# Altium schematic symbol library DIP.SchLib: 29 symbols
Pins are listed as number, name and electrical type; pins without a type are passive.

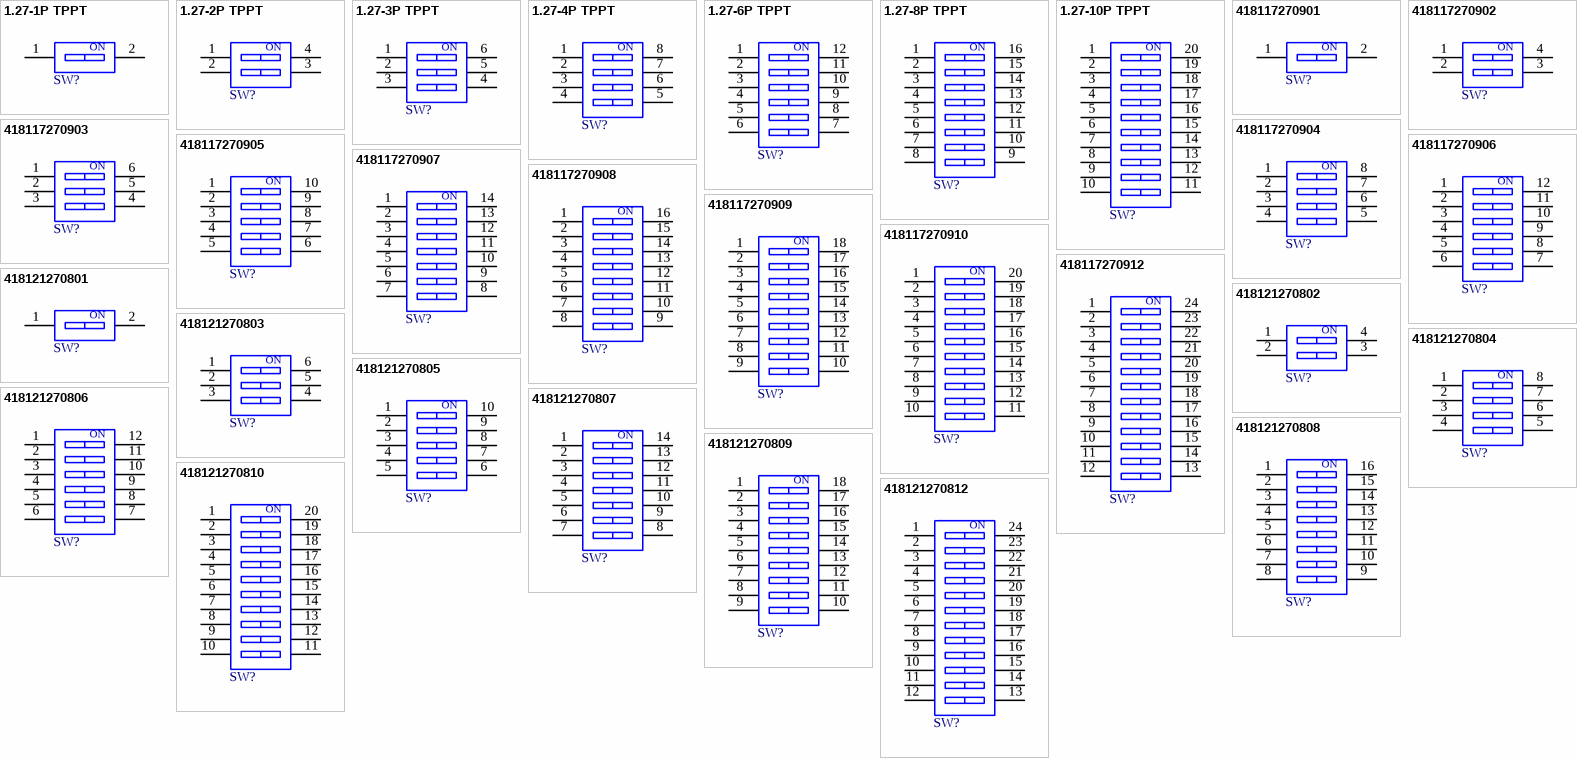
[diagram p0: symbols 1.27-1P TPPT to 418121270812]

## 1.27-1P TPPT
designator SW?  (value not drawn)
WS-DITV Small Compact THT Dip Switch, Raised Actuator, pitch 2.54mm, 1p; Manufacturer: SHOU HAN; Actuator Type: Raise Type; Operation Force: 600g; Pitch: 1.27mm; Rated Current Non-Switching: 100mA; Rated Current Switching: 25mA; Rated Voltage Non-Switching: 50VDC; Rated Voltage Switching: 24VDC; Number of Poles: 1; Manufacturer Part Number: 1.27-1P TPPT; Category: Dip Switches; Match Code: WS-DITV; Mount: SMD; Operating Temperature Max: 85°C; Operating Temperature Min: -40°C; Packaging: Tube; Contact Material: Copper Alloy; Contact Plating: Gold; Supplier 1 URL: N/A; Supplier 2 URL: N/A; Supplier 3 URL: N/A; LCSC Part #: C6386918; ComponentLink1Description: Datasheet; ComponentLink1URL: https://lcsc.com/datasheet/lcsc_datasheet_2504101957_SHOU-HAN-1-27-4P-TPPT_C6386919.pdf; Supplier 1: Mouser; Supplier 1 Part Number: N/A; Supplier 2: Digi-Key; Supplier 2 Part Number: N/A; Supplier 3: thegioiic; Supplier 3 Part Number: N/A; Value: 1.27-1P TPPT
footprint 416131160801 (SMD Dip Switch, Small Compact, Raised Actuator, 1pin)
pins: 1, 2
text: ON

## 1.27-2P TPPT
designator SW?  (value not drawn)
WS-DITV Small Compact THT Dip Switch, Raised Actuator, pitch 2.54mm, 2p; Manufacturer: SHOU HAN; Actuator Type: Raise Type; Operation Force: 600g; Pitch: 1.27mm; Rated Current Non-Switching: 100mA; Rated Current Switching: 25mA; Rated Voltage Non-Switching: 50VDC; Rated Voltage Switching: 24VDC; Number of Poles: 2; Manufacturer Part Number: 1.27-2P TPPT; Category: Dip Switches; Match Code: WS-DITV; Mount: SMD; Operating Temperature Max: 85°C; Operating Temperature Min: -40°C; Packaging: Tube; Contact Material: Copper Alloy; Contact Plating: Gold; Supplier 1 URL: N/A; Supplier 2 URL: N/A; Supplier 3 URL: N/A; LCSC Part #: C7421516; ComponentLink1Description: Datasheet; ComponentLink1URL: https://lcsc.com/datasheet/lcsc_datasheet_2504101957_SHOU-HAN-1-27-4P-TPPT_C6386919.pdf; Supplier 1: Mouser; Supplier 1 Part Number: N/A; Supplier 2: Digi-Key; Supplier 2 Part Number: N/A; Supplier 3: thegioiic; Supplier 3 Part Number: N/A; Value: 1.27-2P TPPT
footprint 416131160802 (SMD Dip Switch, Small Compact, Raised Actuator, 2pin)
pins: 1, 2, 3, 4
text: ON

## 1.27-3P TPPT
designator SW?  (value not drawn)
WS-DITV Small Compact THT Dip Switch, Raised Actuator, pitch 2.54mm, 3p; Manufacturer: SHOU HAN; Actuator Type: Raise Type; Operation Force: 600g; Pitch: 1.27mm; Rated Current Non-Switching: 100mA; Rated Current Switching: 25mA; Rated Voltage Non-Switching: 50VDC; Rated Voltage Switching: 24VDC; Number of Poles: 3; Manufacturer Part Number: 1.27-3P TPPT; Category: Dip Switches; Match Code: WS-DITV; Mount: SMD; Operating Temperature Max: 85°C; Operating Temperature Min: -40°C; Packaging: Tube; Contact Material: Copper Alloy; Contact Plating: Gold; Supplier 1 URL: N/A; Supplier 2 URL: N/A; Supplier 3 URL: N/A; LCSC Part #: C7421517; ComponentLink1Description: Datasheet; ComponentLink1URL: https://lcsc.com/datasheet/lcsc_datasheet_2504101957_SHOU-HAN-1-27-4P-TPPT_C6386919.pdf; Supplier 1: Mouser; Supplier 1 Part Number: N/A; Supplier 2: Digi-Key; Supplier 2 Part Number: N/A; Supplier 3: thegioiic; Supplier 3 Part Number: N/A; Value: 1.27-3P TPPT
footprint 416131160803 (SMD Dip Switch, Small Compact, Raised Actuator, 3pin)
pins: 1, 2, 3, 4, 5, 6
text: ON

## 1.27-4P TPPT
designator SW?  (value not drawn)
WS-DITV Small Compact THT Dip Switch, Raised Actuator, pitch 2.54mm, 4p; Manufacturer: SHOU HAN; Actuator Type: Raise Type; Operation Force: 600g; Pitch: 1.27mm; Rated Current Non-Switching: 100mA; Rated Current Switching: 25mA; Rated Voltage Non-Switching: 50VDC; Rated Voltage Switching: 24VDC; Number of Poles: 4; Manufacturer Part Number: 1.27-4P TPPT; Category: Dip Switches; Match Code: WS-DITV; Mount: SMD; Operating Temperature Max: 85°C; Operating Temperature Min: -40°C; Packaging: Tube; Contact Material: Copper Alloy; Contact Plating: Gold; Supplier 1 URL: N/A; Supplier 2 URL: N/A; Supplier 3 URL: N/A; LCSC Part #: C6386919; ComponentLink1Description: Datasheet; ComponentLink1URL: https://lcsc.com/datasheet/lcsc_datasheet_2504101957_SHOU-HAN-1-27-4P-TPPT_C6386919.pdf; Supplier 1: Mouser; Supplier 1 Part Number: N/A; Supplier 2: Digi-Key; Supplier 2 Part Number: N/A; Supplier 3: thegioiic; Supplier 3 Part Number: N/A; Value: 1.27-4P TPPT
footprint 416131160804 (SMD Dip Switch, Small Compact, Raised Actuator, 4pin)
pins: 1, 2, 3, 4, 5, 6, 7, 8
text: ON

## 1.27-6P TPPT
designator SW?  (value not drawn)
WS-DITV Small Compact THT Dip Switch, Raised Actuator, pitch 2.54mm, 6p; Manufacturer: SHOU HAN; Actuator Type: Raise Type; Operation Force: 600g; Pitch: 1.27mm; Rated Current Non-Switching: 100mA; Rated Current Switching: 25mA; Rated Voltage Non-Switching: 50VDC; Rated Voltage Switching: 24VDC; Number of Poles: 6; Manufacturer Part Number: 1.27-6P TPPT; Category: Dip Switches; Match Code: WS-DITV; Mount: SMD; Operating Temperature Max: 85°C; Operating Temperature Min: -40°C; Packaging: Tube; Contact Material: Copper Alloy; Contact Plating: Gold; Supplier 1 URL: N/A; Supplier 2 URL: N/A; Supplier 3 URL: N/A; LCSC Part #: C6386920; ComponentLink1Description: Datasheet; ComponentLink1URL: https://lcsc.com/datasheet/lcsc_datasheet_2504101957_SHOU-HAN-1-27-4P-TPPT_C6386919.pdf; Supplier 1: Mouser; Supplier 1 Part Number: N/A; Supplier 2: Digi-Key; Supplier 2 Part Number: N/A; Supplier 3: thegioiic; Supplier 3 Part Number: N/A; Value: 1.27-6P TPPT
footprint 416131160806 (SMD Dip Switch, Small Compact, Raised Actuator, 6pin)
pins: 1, 2, 3, 4, 5, 6, 7, 8, 9, 10, 11, 12
text: ON

## 1.27-8P TPPT
designator SW?  (value not drawn)
WS-DITV Small Compact THT Dip Switch, Raised Actuator, pitch 2.54mm, 8p; Manufacturer: SHOU HAN; Actuator Type: Raise Type; Operation Force: 600g; Pitch: 1.27mm; Rated Current Non-Switching: 100mA; Rated Current Switching: 25mA; Rated Voltage Non-Switching: 50VDC; Rated Voltage Switching: 24VDC; Number of Poles: 8; Manufacturer Part Number: 1.27-8P TPPT; Category: Dip Switches; Match Code: WS-DITV; Mount: SMD; Operating Temperature Max: 85°C; Operating Temperature Min: -40°C; Packaging: Tube; Contact Material: Copper Alloy; Contact Plating: Gold; Supplier 1 URL: N/A; Supplier 2 URL: N/A; Supplier 3 URL: N/A; LCSC Part #: C6386921; ComponentLink1Description: Datasheet; ComponentLink1URL: https://lcsc.com/datasheet/lcsc_datasheet_2504101957_SHOU-HAN-1-27-4P-TPPT_C6386919.pdf; Supplier 1: Mouser; Supplier 1 Part Number: N/A; Supplier 2: Digi-Key; Supplier 2 Part Number: N/A; Supplier 3: thegioiic; Supplier 3 Part Number: N/A; Value: 1.27-8P TPPT
footprint 416131160808 (SMD Dip Switch, Small Compact, Raised Actuator, 8pin)
pins: 1, 2, 3, 4, 5, 6, 7, 8, 9, 10, 11, 12, 13, 14, 15, 16
text: ON

## 1.27-10P TPPT
designator SW?  (value not drawn)
WS-DITV Small Compact THT Dip Switch, Raised Actuator, pitch 2.54mm, 10p; Manufacturer: SHOU HAN; Actuator Type: Raise Type; Operation Force: 600g; Pitch: 1.27mm; Rated Current Non-Switching: 100mA; Rated Current Switching: 25mA; Rated Voltage Non-Switching: 50VDC; Rated Voltage Switching: 24VDC; Number of Poles: 10; Manufacturer Part Number: 1.27-10P TPPT; Category: Dip Switches; Match Code: WS-DITV; Mount: SMD; Operating Temperature Max: 85°C; Operating Temperature Min: -40°C; Packaging: Tube; Contact Material: Copper Alloy; Contact Plating: Gold; Supplier 1 URL: N/A; Supplier 2 URL: N/A; Supplier 3 URL: N/A; LCSC Part #: C6386922; ComponentLink1Description: Datasheet; ComponentLink1URL: https://lcsc.com/datasheet/lcsc_datasheet_2504101957_SHOU-HAN-1-27-4P-TPPT_C6386919.pdf; Supplier 1: Mouser; Supplier 1 Part Number: N/A; Supplier 2: Digi-Key; Supplier 2 Part Number: N/A; Supplier 3: thegioiic; Supplier 3 Part Number: N/A; Value: 1.27-10P TPPT
footprint 416131160810 (SMD Dip Switch, Small Compact, Raised Actuator, 10pin)
pins: 1, 2, 3, 4, 5, 6, 7, 8, 9, 10, 11, 12, 13, 14, 15, 16, 17, 18, 19, 20
text: ON

## 418117270901
designator SW?  (value not drawn)
WS-DITV Compact THT Dip Switch, Raised Actuator, pitch 2.54mm, 1p; Manufacturer: Wurth Elektronik; Actuator Type: Raise Type; Operation Force: 800g; Rated Current Non-Switching: 100mA; Rated Current Switching: 25mA; Rated Voltage Non-Switching: 50VDC; Rated Voltage Switching: 24VDC; Number of Poles: 1; Manufacturer Part Number: 418117270901; Category: Dip Switches; Match Code: WS-DITV; Mount: Through Hole; Operating Temperature Max: 85°C; Operating Temperature Min: -40°C; Packaging: Tube; Contact Material: Copper Alloy; Contact Plating: Gold; Pitch: 2.54mm; Supplier 1 URL: https://www.mouser.com/ProductDetail/Wurth-Elektronik/418117270901?qs=wr8lucFkNMXoidz%252BMVxNfg%3D%3D; Supplier 2 URL: https://www.digikey.com/en/products/detail/w%C3%BCrth-elektronik/418117270901/3174480; Supplier 3 URL: https://www.thegioiic.com/cong-tac-1-bit-dip-switch-xuyen-lo-2-54mm-mau-do; LCSC Part #: N/A; ComponentLink1Description: Datasheet; ComponentLink1URL: https://www.we-online.com/redexpert/spec/418117270901?ad; Supplier 1: Mouser; Supplier 1 Part Number: 710-418117270901; Supplier 2: Digi-Key; Supplier 2 Part Number: 732-3831-5-ND; Supplier 3: thegioiic; Supplier 3 Part Number: OEM; Value: 418117270901
footprint 418117270901
pins: 1, 2
text: ON

## 418117270902
designator SW?  (value not drawn)
WS-DITV Compact THT Dip Switch, Raised Actuator, pitch 2.54mm, 2p; Manufacturer: Wurth Elektronik; Actuator Type: Raise Type; Operation Force: 800g; Rated Current Non-Switching: 100mA; Rated Current Switching: 25mA; Rated Voltage Non-Switching: 50VDC; Rated Voltage Switching: 24VDC; Number of Poles: 2; Manufacturer Part Number: 418117270902; Category: Dip Switches; Match Code: WS-DITV; Mount: Through Hole; Operating Temperature Max: 85°C; Operating Temperature Min: -40°C; Packaging: Tube; Contact Material: Copper Alloy; Contact Plating: Gold; Pitch: 2.54mm; Supplier 1 URL: https://www.mouser.com/ProductDetail/Wurth-Elektronik/418117270902?qs=wr8lucFkNMWPQj5jgffPRw%3D%3D; Supplier 2 URL: https://www.digikey.com/en/products/detail/w%C3%BCrth-elektronik/418117270902/3174485; Supplier 3 URL: https://www.thegioiic.com/cong-tac-2-bit-dip-switch-xuyen-lo-2-54mm-mau-do; LCSC Part #: N/A; ComponentLink1Description: Datasheet; ComponentLink1URL: https://www.we-online.com/redexpert/spec/418117270902?ad; Supplier 1: Mouser; Supplier 1 Part Number: 710-418117270902; Supplier 2: Digi-Key; Supplier 2 Part Number: 732-3832-5-ND; Supplier 3: thegioiic; Supplier 3 Part Number: OEM; Value: 418117270902
footprint 418117270902
pins: 1, 2, 3, 4
text: ON

## 418117270903
designator SW?  (value not drawn)
WS-DITV Compact THT Dip Switch, Raised Actuator, pitch 2.54mm, 3p; Manufacturer: Wurth Elektronik; Actuator Type: Raise Type; Operation Force: 800g; Rated Current Non-Switching: 100mA; Rated Current Switching: 25mA; Rated Voltage Non-Switching: 50VDC; Rated Voltage Switching: 24VDC; Number of Poles: 3; Manufacturer Part Number: 418117270903; Category: Dip Switches; Match Code: WS-DITV; Mount: Through Hole; Operating Temperature Max: 85°C; Operating Temperature Min: -40°C; Packaging: Tube; Contact Material: Copper Alloy; Contact Plating: Gold; Pitch: 2.54mm; Supplier 1 URL: https://www.mouser.com/ProductDetail/Wurth-Elektronik/418117270903?qs=wr8lucFkNMXAipjxPyvu8A%3D%3D; Supplier 2 URL: https://www.digikey.com/en/products/detail/w%C3%BCrth-elektronik/418117270903/3174487; Supplier 3 URL: https://www.thegioiic.com/cong-tac-3-bit-dip-switch-xuyen-lo-2-54mm-mau-do; LCSC Part #: N/A; ComponentLink1Description: Datasheet; ComponentLink1URL: https://www.we-online.com/redexpert/spec/418117270903?ad; Supplier 1: Mouser; Supplier 1 Part Number: 710-418117270903; Supplier 2: Digi-Key; Supplier 2 Part Number: 732-3833-5-ND; Supplier 3: thegioiic; Supplier 3 Part Number: OEM; Value: 418117270903
footprint 418117270903
pins: 1, 2, 3, 4, 5, 6
text: ON

## 418117270904
designator SW?  (value not drawn)
WS-DITV Compact THT Dip Switch, Raised Actuator, pitch 2.54mm, 4p; Manufacturer: Wurth Elektronik; Actuator Type: Raise Type; Operation Force: 800g; Rated Current Non-Switching: 100mA; Rated Current Switching: 25mA; Rated Voltage Non-Switching: 50VDC; Rated Voltage Switching: 24VDC; Number of Poles: 4; Manufacturer Part Number: 418117270904; Category: Dip Switches; Match Code: WS-DITV; Mount: Through Hole; Operating Temperature Max: 85°C; Operating Temperature Min: -40°C; Packaging: Tube; Contact Material: Copper Alloy; Contact Plating: Gold; Pitch: 2.54mm; Supplier 1 URL: https://www.mouser.com/ProductDetail/Wurth-Elektronik/418117270904?qs=wr8lucFkNMUW2I6n2hVTKw%3D%3D; Supplier 2 URL: https://www.digikey.com/en/products/detail/w%C3%BCrth-elektronik/418117270904/3174489; Supplier 3 URL: https://www.thegioiic.com/cong-tac-4-bit-dip-switch-xuyen-lo-2-54mm-mau-do; LCSC Part #: N/A; ComponentLink1Description: Datasheet; ComponentLink1URL: https://www.we-online.com/redexpert/spec/418117270904?ad; Supplier 1: Mouser; Supplier 1 Part Number: 710-418117270904; Supplier 2: Digi-Key; Supplier 2 Part Number: 732-3834-5-ND; Supplier 3: thegioiic; Supplier 3 Part Number: OEM; Value: 418117270904
footprint 418117270904
pins: 1, 2, 3, 4, 5, 6, 7, 8
text: ON

## 418117270905
designator SW?  (value not drawn)
WS-DITV Compact THT Dip Switch, Raised Actuator, pitch 2.54mm, 5p; Manufacturer: Wurth Elektronik; Actuator Type: Raise Type; Operation Force: 800g; Rated Current Non-Switching: 100mA; Rated Current Switching: 25mA; Rated Voltage Non-Switching: 50VDC; Rated Voltage Switching: 24VDC; Number of Poles: 5; Manufacturer Part Number: 418117270905; Category: Dip Switches; Match Code: WS-DITV; Mount: Through Hole; Operating Temperature Max: 85°C; Operating Temperature Min: -40°C; Packaging: Tube; Contact Material: Copper Alloy; Contact Plating: Gold; Pitch: 2.54mm; Supplier 1 URL: https://www.mouser.com/ProductDetail/Wurth-Elektronik/418117270905?qs=wr8lucFkNMW8VozDBz1KDQ%3D%3D; Supplier 2 URL: https://www.digikey.com/en/products/detail/w%C3%BCrth-elektronik/418117270905/3174491; Supplier 3 URL: https://www.thegioiic.com/cong-tac-5-bit-dip-switch-xuyen-lo-2-54mm-mau-do; LCSC Part #: N/A; ComponentLink1Description: Datasheet; ComponentLink1URL: https://www.we-online.com/redexpert/spec/418117270905?ad; Supplier 1: Mouser; Supplier 1 Part Number: 710-418117270905; Supplier 2: Digi-Key; Supplier 2 Part Number: 732-3835-5-ND; Supplier 3: thegioiic; Supplier 3 Part Number: OEM; Value: 418117270905
footprint 418117270905
pins: 1, 2, 3, 4, 5, 6, 7, 8, 9, 10
text: ON

## 418117270906
designator SW?  (value not drawn)
WS-DITV Compact THT Dip Switch, Raised Actuator, pitch 2.54mm, 6p; Manufacturer: Wurth Elektronik; Actuator Type: Raise Type; Operation Force: 800g; Rated Current Non-Switching: 100mA; Rated Current Switching: 25mA; Rated Voltage Non-Switching: 50VDC; Rated Voltage Switching: 24VDC; Number of Poles: 6; Manufacturer Part Number: 418117270906; Category: Dip Switches; Match Code: WS-DITV; Mount: Through Hole; Operating Temperature Max: 85°C; Operating Temperature Min: -40°C; Packaging: Tube; Contact Material: Copper Alloy; Contact Plating: Gold; Pitch: 2.54mm; Supplier 1 URL: https://www.mouser.com/ProductDetail/Wurth-Elektronik/418117270906?qs=2kOmHSv6VfTTULWQkr3hYg%3D%3D; Supplier 2 URL: https://www.digikey.com/en/products/detail/w%C3%BCrth-elektronik/418117270906/3174493; Supplier 3 URL: https://www.thegioiic.com/cong-tac-6-bit-dip-switch-xuyen-lo-2-54mm-mau-do; LCSC Part #: N/A; ComponentLink1Description: Datasheet; ComponentLink1URL: https://www.we-online.com/redexpert/spec/418117270906?ad; Supplier 1: Mouser; Supplier 1 Part Number: 710-418117270906; Supplier 2: Digi-Key; Supplier 2 Part Number: 732-3836-5-ND; Supplier 3: thegioiic; Supplier 3 Part Number: OEM; Value: 418117270906
footprint 418117270906
pins: 1, 2, 3, 4, 5, 6, 7, 8, 9, 10, 11, 12
text: ON

## 418117270907
designator SW?  (value not drawn)
WS-DITV Compact THT Dip Switch, Raised Actuator, pitch 2.54mm, 7p; Manufacturer: Wurth Elektronik; Actuator Type: Raise Type; Operation Force: 800g; Rated Current Non-Switching: 100mA; Rated Current Switching: 25mA; Rated Voltage Non-Switching: 50VDC; Rated Voltage Switching: 24VDC; Number of Poles: 7; Manufacturer Part Number: 418117270907; Category: Dip Switches; Match Code: WS-DITV; Mount: Through Hole; Operating Temperature Max: 85°C; Operating Temperature Min: -40°C; Packaging: Tube; Contact Material: Copper Alloy; Contact Plating: Gold; Pitch: 2.54mm; Supplier 1 URL: https://www.mouser.com/ProductDetail/Wurth-Elektronik/418117270907?qs=wr8lucFkNMXzsUwB%252ByOzRA%3D%3D; Supplier 2 URL: https://www.digikey.com/en/products/detail/w%C3%BCrth-elektronik/418117270907/3174495; Supplier 3 URL: https://www.thegioiic.com/cong-tac-7-bit-dip-switch-xuyen-lo-2-54mm-mau-do; LCSC Part #: N/A; ComponentLink1Description: Datasheet; ComponentLink1URL: https://www.we-online.com/redexpert/spec/418117270907?ad; Supplier 1: Mouser; Supplier 1 Part Number: 710-418117270907; Supplier 2: Digi-Key; Supplier 2 Part Number: 732-3837-5-ND; Supplier 3: thegioiic; Supplier 3 Part Number: OEM; Value: 418117270907
footprint 418117270907
pins: 1, 2, 3, 4, 5, 6, 7, 8, 9, 10, 11, 12, 13, 14
text: ON

## 418117270908
designator SW?  (value not drawn)
WS-DITV Compact THT Dip Switch, Raised Actuator, pitch 2.54mm, 8p; Manufacturer: Wurth Elektronik; Actuator Type: Raise Type; Operation Force: 800g; Rated Current Non-Switching: 100mA; Rated Current Switching: 25mA; Rated Voltage Non-Switching: 50VDC; Rated Voltage Switching: 24VDC; Number of Poles: 8; Manufacturer Part Number: 418117270908; Category: Dip Switches; Match Code: WS-DITV; Mount: Through Hole; Operating Temperature Max: 85°C; Operating Temperature Min: -40°C; Packaging: Tube; Contact Material: Copper Alloy; Contact Plating: Gold; Pitch: 2.54mm; Supplier 1 URL: https://www.mouser.com/ProductDetail/Wurth-Elektronik/418117270908?qs=wr8lucFkNMXJyYOZ9v4znw%3D%3D; Supplier 2 URL: https://www.digikey.com/en/products/detail/w%C3%BCrth-elektronik/418117270908/3174497; Supplier 3 URL: https://www.thegioiic.com/cong-tac-8-bit-dip-switch-xuyen-lo-2-54mm-mau-do; LCSC Part #: N/A; ComponentLink1Description: Datasheet; ComponentLink1URL: https://www.we-online.com/redexpert/spec/418117270908?ad; Supplier 1: Mouser; Supplier 1 Part Number: 710-418117270908; Supplier 2: Digi-Key; Supplier 2 Part Number: 732-3838-5-ND; Supplier 3: thegioiic; Supplier 3 Part Number: OEM; Value: 418117270908
footprint 418117270908
pins: 1, 2, 3, 4, 5, 6, 7, 8, 9, 10, 11, 12, 13, 14, 15, 16
text: ON

## 418117270909
designator SW?  (value not drawn)
WS-DITV Compact THT Dip Switch, Raised Actuator, pitch 2.54mm, 9p; Manufacturer: Wurth Elektronik; Actuator Type: Raise Type; Operation Force: 800g; Rated Current Non-Switching: 100mA; Rated Current Switching: 25mA; Rated Voltage Non-Switching: 50VDC; Rated Voltage Switching: 24VDC; Number of Poles: 9; Manufacturer Part Number: 418117270909; Category: Dip Switches; Match Code: WS-DITV; Mount: Through Hole; Operating Temperature Max: 85°C; Operating Temperature Min: -40°C; Packaging: Tube; Contact Material: Copper Alloy; Contact Plating: Gold; Pitch: 2.54mm; Supplier 1 URL: N/A; Supplier 2 URL: https://www.digikey.com/en/products/detail/w%C3%BCrth-elektronik/418117270909/3174499; Supplier 3 URL: https://www.thegioiic.com/cong-tac-9-bit-dip-switch-xuyen-lo-2-54mm-mau-do; LCSC Part #: N/A; ComponentLink1Description: Datasheet; ComponentLink1URL: https://www.we-online.com/redexpert/spec/418117270909?ad; Supplier 1: Mouser; Supplier 1 Part Number: N/A; Supplier 2: Digi-Key; Supplier 2 Part Number: 732-3839-5-ND; Supplier 3: thegioiic; Supplier 3 Part Number: OEM; Value: 418117270909
footprint 418117270909
pins: 1, 2, 3, 4, 5, 6, 7, 8, 9, 10, 11, 12, 13, 14, 15, 16, 17, 18
text: ON

## 418117270910
designator SW?  (value not drawn)
WS-DITV Compact THT Dip Switch, Raised Actuator, pitch 2.54mm, 10p; Manufacturer: Wurth Elektronik; Actuator Type: Raise Type; Operation Force: 800g; Rated Current Non-Switching: 100mA; Rated Current Switching: 25mA; Rated Voltage Non-Switching: 50VDC; Rated Voltage Switching: 24VDC; Number of Poles: 10; Manufacturer Part Number: 418117270910; Category: Dip Switches; Match Code: WS-DITV; Mount: Through Hole; Operating Temperature Max: 85°C; Operating Temperature Min: -40°C; Packaging: Tube; Contact Material: Copper Alloy; Contact Plating: Gold; Pitch: 2.54mm; Supplier 1 URL: https://www.mouser.com/ProductDetail/Wurth-Elektronik/418117270910?qs=wr8lucFkNMUch25rKqRTyg%3D%3D; Supplier 2 URL: https://www.digikey.com/en/products/detail/w%C3%BCrth-elektronik/418117270910/3174501; Supplier 3 URL: https://www.thegioiic.com/cong-tac-10-bit-dip-switch-xuyen-lo-2-54mm-mau-do; LCSC Part #: N/A; ComponentLink1Description: Datasheet; ComponentLink1URL: https://www.we-online.com/redexpert/spec/418117270910?ad; Supplier 1: Mouser; Supplier 1 Part Number: 710-418117270910; Supplier 2: Digi-Key; Supplier 2 Part Number: 732-3840-5-ND; Supplier 3: thegioiic; Supplier 3 Part Number: OEM; Value: 418117270910
footprint 418117270910
pins: 1, 2, 3, 4, 5, 6, 7, 8, 9, 10, 11, 12, 13, 14, 15, 16, 17, 18, 19, 20
text: ON

## 418117270912
designator SW?  (value not drawn)
WS-DITV Compact THT Dip Switch, Raised Actuator, pitch 2.54mm, 12p; Manufacturer: Wurth Elektronik; Actuator Type: Raise Type; Operation Force: 800g; Rated Current Non-Switching: 100mA; Rated Current Switching: 25mA; Rated Voltage Non-Switching: 50VDC; Rated Voltage Switching: 24VDC; Number of Poles: 12; Manufacturer Part Number: 418117270912; Category: Dip Switches; Match Code: WS-DITV; Mount: Through Hole; Operating Temperature Max: 85°C; Operating Temperature Min: -40°C; Packaging: Tube; Contact Material: Copper Alloy; Contact Plating: Gold; Pitch: 2.54mm; Supplier 1 URL: https://www.mouser.com/ProductDetail/Wurth-Elektronik/418117270912?qs=wr8lucFkNMX8SShHHQ0hQw%3D%3D; Supplier 2 URL: https://www.digikey.com/en/products/detail/w%C3%BCrth-elektronik/418117270912/3174503; Supplier 3 URL: https://www.thegioiic.com/cong-tac-12-bit-dip-switch-xuyen-lo-2-54mm-mau-do; LCSC Part #: N/A; ComponentLink1Description: Datasheet; ComponentLink1URL: https://www.we-online.com/redexpert/spec/418117270912?ad; Supplier 1: Mouser; Supplier 1 Part Number: 710-418117270912; Supplier 2: Digi-Key; Supplier 2 Part Number: 732-3841-5-ND; Supplier 3: thegioiic; Supplier 3 Part Number: OEM; Value: 418117270912
footprint 418117270912
pins: 1, 2, 3, 4, 5, 6, 7, 8, 9, 10, 11, 12, 13, 14, 15, 16, 17, 18, 19, 20, 21, 22, 23, 24
text: ON

## 418121270801
designator SW?  (value not drawn)
WS-DISV Small Compact SMT Dip Switch, Raised Actuator, pitch 2.54mm, 1p; Manufacturer: Wurth Elektronik; Actuator Type: Raise Type; Operation Force: 600g; Rated Current Non-Switching: 100mA; Rated Current Switching: 25mA; Rated Voltage Non-Switching: 50VDC; Rated Voltage Switching: 24VDC; Number of Poles: 1; Manufacturer Part Number: 418121270801; Category: Dip Switches; Match Code: WS-DISV; Mount: Surface Mount; Operating Temperature Max: 85°C; Operating Temperature Min: -40°C; Packaging: Tape and Reel; Contact Material: Copper Alloy; Contact Plating: Gold; Pitch: 2.54mm; Supplier 1 URL: N/A; Supplier 2 URL: N/A; Supplier 3 URL: https://www.thegioiic.com/cong-tac-dip-switch-dan-smd-1-bit-2-54mm; LCSC Part #: N/A; ComponentLink1Description: Datasheet; ComponentLink1URL: https://www.we-online.com/redexpert/spec/418121270801?ad; Supplier 1: Mouser; Supplier 1 Part Number: N/A; Supplier 2: Digi-Key; Supplier 2 Part Number: N/A; Supplier 3: thegioiic; Supplier 3 Part Number: OEM; Value: 418121270801
footprint 418121270801
pins: 1, 2
text: ON

## 418121270802
designator SW?  (value not drawn)
WS-DISV Small Compact SMT Dip Switch, Raised Actuator, pitch 2.54mm, 2p; Manufacturer: Wurth Elektronik; Actuator Type: Raise Type; Operation Force: 600g; Rated Current Non-Switching: 100mA; Rated Current Switching: 25mA; Rated Voltage Non-Switching: 50VDC; Rated Voltage Switching: 24VDC; Number of Poles: 2; Manufacturer Part Number: 418121270802; Category: Dip Switches; Match Code: WS-DISV; Mount: Surface Mount; Operating Temperature Max: 85°C; Operating Temperature Min: -40°C; Packaging: Tape and Reel; Contact Material: Copper Alloy; Contact Plating: Gold; Pitch: 2.54mm; Supplier 1 URL: https://www.mouser.com/ProductDetail/Wurth-Elektronik/418121270802?qs=wr8lucFkNMXDQpURv6WqJA%3D%3D; Supplier 2 URL: https://www.digikey.com/en/products/detail/w%C3%BCrth-elektronik/418121270802/5208894; Supplier 3 URL: https://www.thegioiic.com/cong-tac-dip-switch-dan-smd-2-bit-2-54mm; LCSC Part #: N/A; ComponentLink1Description: Datasheet; ComponentLink1URL: https://www.we-online.com/redexpert/spec/418121270802?ad; Supplier 1: Mouser; Supplier 1 Part Number: 710-418121270802; Supplier 2: Digi-Key; Supplier 2 Part Number: 732-10353-2-ND; Supplier 3: thegioiic; Supplier 3 Part Number: OEM; Value: 418121270802
footprint 418121270802
pins: 1, 2, 3, 4
text: ON

## 418121270803
designator SW?  (value not drawn)
WS-DISV Small Compact SMT Dip Switch, Raised Actuator, pitch 2.54mm, 3p; Manufacturer: Wurth Elektronik; Actuator Type: Raise Type; Operation Force: 600g; Rated Current Non-Switching: 100mA; Rated Current Switching: 25mA; Rated Voltage Non-Switching: 50VDC; Rated Voltage Switching: 24VDC; Number of Poles: 3; Manufacturer Part Number: 418121270803; Category: Dip Switches; Match Code: WS-DISV; Mount: Surface Mount; Operating Temperature Max: 85°C; Operating Temperature Min: -40°C; Packaging: Tape and Reel; Contact Material: Copper Alloy; Contact Plating: Gold; Pitch: 2.54mm; Supplier 1 URL: N/A; Supplier 2 URL: N/A; Supplier 3 URL: https://www.thegioiic.com/cong-tac-dip-switch-dan-smd-3-bit-2-54mm; LCSC Part #: N/A; ComponentLink1Description: Datasheet; ComponentLink1URL: https://www.we-online.com/redexpert/spec/418121270803?ad; Supplier 1: Mouser; Supplier 1 Part Number: N/A; Supplier 2: Digi-Key; Supplier 2 Part Number: N/A; Supplier 3: thegioiic; Supplier 3 Part Number: OEM; Value: 418121270803
footprint 418121270803
pins: 1, 2, 3, 4, 5, 6
text: ON

## 418121270804
designator SW?  (value not drawn)
WS-DISV Small Compact SMT Dip Switch, Raised Actuator, pitch 2.54mm, 4p; Manufacturer: Wurth Elektronik; Actuator Type: Raise Type; Operation Force: 600g; Rated Current Non-Switching: 100mA; Rated Current Switching: 25mA; Rated Voltage Non-Switching: 50VDC; Rated Voltage Switching: 24VDC; Number of Poles: 4; Manufacturer Part Number: 418121270804; Category: Dip Switches; Match Code: WS-DISV; Mount: Surface Mount; Operating Temperature Max: 85°C; Operating Temperature Min: -40°C; Packaging: Tape and Reel; Contact Material: Copper Alloy; Contact Plating: Gold; Pitch: 2.54mm; Supplier 1 URL: https://www.mouser.com/ProductDetail/Wurth-Elektronik/418121270804?qs=wr8lucFkNMV0DqoRYD1rcw%3D%3D; Supplier 2 URL: https://www.digikey.com/en/products/detail/w%C3%BCrth-elektronik/418121270804/5208895; Supplier 3 URL: https://www.thegioiic.com/cong-tac-dip-switch-dan-smd-4-bit-2-54mm; LCSC Part #: N/A; ComponentLink1Description: Datasheet; ComponentLink1URL: https://www.we-online.com/redexpert/spec/418121270804?ad; Supplier 1: Mouser; Supplier 1 Part Number: 710-418121270804; Supplier 2: Digi-Key; Supplier 2 Part Number: 732-6963-2-ND; Supplier 3: thegioiic; Supplier 3 Part Number: OEM; Value: 418121270804
footprint 418121270804
pins: 1, 2, 3, 4, 5, 6, 7, 8
text: ON

## 418121270805
designator SW?  (value not drawn)
WS-DISV Small Compact SMT Dip Switch, Raised Actuator, pitch 2.54mm, 5p; Manufacturer: Wurth Elektronik; Actuator Type: Raise Type; Operation Force: 600g; Rated Current Non-Switching: 100mA; Rated Current Switching: 25mA; Rated Voltage Non-Switching: 50VDC; Rated Voltage Switching: 24VDC; Number of Poles: 5; Manufacturer Part Number: 418121270805; Category: Dip Switches; Match Code: WS-DISV; Mount: Surface Mount; Operating Temperature Max: 85°C; Operating Temperature Min: -40°C; Packaging: Tape and Reel; Contact Material: Copper Alloy; Contact Plating: Gold; Pitch: 2.54mm; Supplier 1 URL: N/A; Supplier 2 URL: N/A; Supplier 3 URL: https://www.thegioiic.com/cong-tac-dip-switch-dan-smd-5-bit-2-54mm; LCSC Part #: N/A; ComponentLink1Description: Datasheet; ComponentLink1URL: https://www.we-online.com/redexpert/spec/418121270805?ad; Supplier 1: Mouser; Supplier 1 Part Number: N/A; Supplier 2: Digi-Key; Supplier 2 Part Number: N/A; Supplier 3: thegioiic; Supplier 3 Part Number: OEM; Value: 418121270805
footprint 418121270805
pins: 1, 2, 3, 4, 5, 6, 7, 8, 9, 10
text: ON

## 418121270806
designator SW?  (value not drawn)
WS-DISV Small Compact SMT Dip Switch, Raised Actuator, pitch 2.54mm, 6p; Manufacturer: Wurth Elektronik; Actuator Type: Raise Type; Operation Force: 600g; Rated Current Non-Switching: 100mA; Rated Current Switching: 25mA; Rated Voltage Non-Switching: 50VDC; Rated Voltage Switching: 24VDC; Number of Poles: 6; Manufacturer Part Number: 418121270806; Category: Dip Switches; Match Code: WS-DISV; Mount: Surface Mount; Operating Temperature Max: 85°C; Operating Temperature Min: -40°C; Packaging: Tape and Reel; Contact Material: Copper Alloy; Contact Plating: Gold; Pitch: 2.54mm; Supplier 1 URL: https://www.mouser.com/ProductDetail/Wurth-Elektronik/418121270806?qs=wr8lucFkNMWBSZSZusb38w%3D%3D; Supplier 2 URL: https://www.digikey.com/en/products/detail/w%C3%BCrth-elektronik/418121270806/5208896; Supplier 3 URL: https://www.thegioiic.com/cong-tac-dip-switch-dan-smd-6-bit-2-54mm; LCSC Part #: N/A; ComponentLink1Description: Datasheet; ComponentLink1URL: https://www.we-online.com/redexpert/spec/418121270806?ad; Supplier 1: Mouser; Supplier 1 Part Number: 710-418121270806; Supplier 2: Digi-Key; Supplier 2 Part Number: 732-6964-2-ND; Supplier 3: thegioiic; Supplier 3 Part Number: OEM; Value: 418121270806
footprint 418121270806
pins: 1, 2, 3, 4, 5, 6, 7, 8, 9, 10, 11, 12
text: ON

## 418121270807
designator SW?  (value not drawn)
WS-DISV Small Compact SMT Dip Switch, Raised Actuator, pitch 2.54mm, 7p; Manufacturer: Wurth Elektronik; Actuator Type: Raise Type; Operation Force: 600g; Rated Current Non-Switching: 100mA; Rated Current Switching: 25mA; Rated Voltage Non-Switching: 50VDC; Rated Voltage Switching: 24VDC; Number of Poles: 7; Manufacturer Part Number: 418121270807; Category: Dip Switches; Match Code: WS-DISV; Mount: Surface Mount; Operating Temperature Max: 85°C; Operating Temperature Min: -40°C; Packaging: Tape and Reel; Contact Material: Copper Alloy; Contact Plating: Gold; Pitch: 2.54mm; Supplier 1 URL: N/A; Supplier 2 URL: N/A; Supplier 3 URL: https://www.thegioiic.com/cong-tac-dip-switch-dan-smd-7-bit-2-54mm; LCSC Part #: N/A; ComponentLink1Description: Datasheet; ComponentLink1URL: https://www.we-online.com/redexpert/spec/418121270807?ad; Supplier 1: Mouser; Supplier 1 Part Number: N/A; Supplier 2: Digi-Key; Supplier 2 Part Number: N/A; Supplier 3: thegioiic; Supplier 3 Part Number: OEM; Value: 418121270807
footprint 418121270807
pins: 1, 2, 3, 4, 5, 6, 7, 8, 9, 10, 11, 12, 13, 14
text: ON

## 418121270808
designator SW?  (value not drawn)
WS-DISV Small Compact SMT Dip Switch, Raised Actuator, pitch 2.54mm, 8p; Manufacturer: Wurth Elektronik; Actuator Type: Raise Type; Operation Force: 600g; Rated Current Non-Switching: 100mA; Rated Current Switching: 25mA; Rated Voltage Non-Switching: 50VDC; Rated Voltage Switching: 24VDC; Number of Poles: 8; Manufacturer Part Number: 418121270808; Category: Dip Switches; Match Code: WS-DISV; Mount: Surface Mount; Operating Temperature Max: 85°C; Operating Temperature Min: -40°C; Packaging: Tape and Reel; Contact Material: Copper Alloy; Contact Plating: Gold; Pitch: 2.54mm; Supplier 1 URL: https://www.mouser.com/ProductDetail/Wurth-Elektronik/418121270808?qs=wr8lucFkNMV70R9gBFR%2FyA%3D%3D; Supplier 2 URL: https://www.digikey.com/en/products/detail/w%C3%BCrth-elektronik/418121270808/5208897; Supplier 3 URL: https://www.thegioiic.com/cong-tac-dip-switch-dan-smd-8-bit-2-54mm; LCSC Part #: N/A; ComponentLink1Description: Datasheet; ComponentLink1URL: https://www.we-online.com/redexpert/spec/418121270808?ad; Supplier 1: Mouser; Supplier 1 Part Number: 710-418121270808; Supplier 2: Digi-Key; Supplier 2 Part Number: 732-6965-2-ND; Supplier 3: thegioiic; Supplier 3 Part Number: OEM; Value: 418121270808
footprint 418121270808
pins: 1, 2, 3, 4, 5, 6, 7, 8, 9, 10, 11, 12, 13, 14, 15, 16
text: ON

## 418121270809
designator SW?  (value not drawn)
WS-DISV Small Compact SMT Dip Switch, Raised Actuator, pitch 2.54mm, 9p; Manufacturer: Wurth Elektronik; Actuator Type: Raise Type; Operation Force: 600g; Rated Current Non-Switching: 100mA; Rated Current Switching: 25mA; Rated Voltage Non-Switching: 50VDC; Rated Voltage Switching: 24VDC; Number of Poles: 9; Manufacturer Part Number: 418121270809; Category: Dip Switches; Match Code: WS-DISV; Mount: Surface Mount; Operating Temperature Max: 85°C; Operating Temperature Min: -40°C; Packaging: Tape and Reel; Contact Material: Copper Alloy; Contact Plating: Gold; Pitch: 2.54mm; Supplier 1 URL: N/A; Supplier 2 URL: N/A; Supplier 3 URL: N/A; LCSC Part #: N/A; ComponentLink1Description: Datasheet; ComponentLink1URL: https://www.we-online.com/redexpert/spec/418121270809?ad; Supplier 1: Mouser; Supplier 1 Part Number: N/A; Supplier 2: Digi-Key; Supplier 2 Part Number: N/A; Supplier 3: thegioiic; Supplier 3 Part Number: OEM; Value: 418121270809
footprint 418121270809
pins: 1, 2, 3, 4, 5, 6, 7, 8, 9, 10, 11, 12, 13, 14, 15, 16, 17, 18
text: ON

## 418121270810
designator SW?  (value not drawn)
WS-DISV Small Compact SMT Dip Switch, Raised Actuator, pitch 2.54mm, 10p; Manufacturer: Wurth Elektronik; Actuator Type: Raise Type; Operation Force: 600g; Rated Current Non-Switching: 100mA; Rated Current Switching: 25mA; Rated Voltage Non-Switching: 50VDC; Rated Voltage Switching: 24VDC; Number of Poles: 10; Manufacturer Part Number: 418121270810; Category: Dip Switches; Match Code: WS-DISV; Mount: Surface Mount; Operating Temperature Max: 85°C; Operating Temperature Min: -40°C; Packaging: Tape and Reel; Contact Material: Copper Alloy; Contact Plating: Gold; Pitch: 2.54mm; Supplier 1 URL: N/A; Supplier 2 URL: https://www.digikey.com/en/products/detail/w%C3%BCrth-elektronik/418121270810/5208898; Supplier 3 URL: N/A; LCSC Part #: N/A; ComponentLink1Description: Datasheet; ComponentLink1URL: https://www.we-online.com/redexpert/spec/418121270810?ad; Supplier 1: Mouser; Supplier 1 Part Number: N/A; Supplier 2: Digi-Key; Supplier 2 Part Number: 732-6966-2-ND; Supplier 3: thegioiic; Supplier 3 Part Number: OEM; Value: 418121270810
footprint 418121270810
pins: 1, 2, 3, 4, 5, 6, 7, 8, 9, 10, 11, 12, 13, 14, 15, 16, 17, 18, 19, 20
text: ON

## 418121270812
designator SW?  (value not drawn)
WS-DISV Small Compact SMT Dip Switch, Raised Actuator, pitch 2.54mm, 12p; Manufacturer: Wurth Elektronik; Actuator Type: Raise Type; Operation Force: 600g; Rated Current Non-Switching: 100mA; Rated Current Switching: 25mA; Rated Voltage Non-Switching: 50VDC; Rated Voltage Switching: 24VDC; Number of Poles: 12; Manufacturer Part Number: 418121270812; Category: Dip Switches; Match Code: WS-DISV; Mount: Surface Mount; Operating Temperature Max: 85°C; Operating Temperature Min: -40°C; Packaging: Tape and Reel; Contact Material: Copper Alloy; Contact Plating: Gold; Pitch: 2.54mm; Supplier 1 URL: N/A; Supplier 2 URL: https://www.digikey.com/en/products/detail/w%C3%BCrth-elektronik/418121270812/5208899; Supplier 3 URL: N/A; LCSC Part #: N/A; ComponentLink1Description: Datasheet; ComponentLink1URL: https://www.we-online.com/redexpert/spec/418121270812?ad; Supplier 1: Mouser; Supplier 1 Part Number: N/A; Supplier 2: Digi-Key; Supplier 2 Part Number: 732-6967-2-ND; Supplier 3: thegioiic; Supplier 3 Part Number: OEM; Value: 418121270812
footprint 418121270812
pins: 1, 2, 3, 4, 5, 6, 7, 8, 9, 10, 11, 12, 13, 14, 15, 16, 17, 18, 19, 20, 21, 22, 23, 24
text: ON